# EAGLE library part SO14GT-DC (library STEMTera)
Amkor SO14GT-DC 3.8mm body
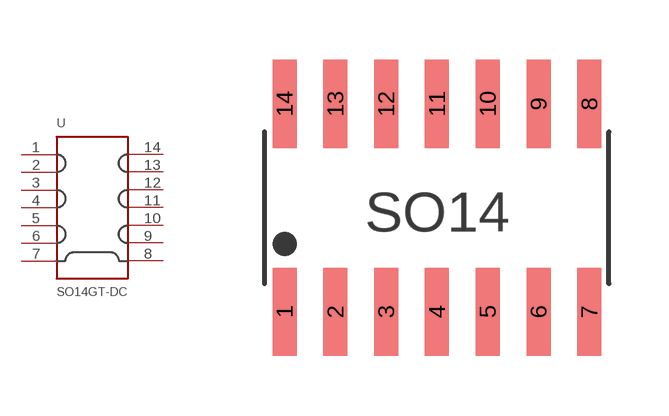
[diagram p13: symbol with the pads of SOIC14_3.8MM; footprint SOIC14_3.8MM]

Designator prefix -

## SO14GT-DC  [SOIC14_3.8MM]
1  1
2  2
3  3
4  4
5  5
6  6
7  7
8  8
9  9
10  10
11  11
12  12
13  13
14  14

## Footprint SOIC14_3.8MM (pad centres in mm)
SOIC14 3.8mm Body
smd 0.6 x 2.2: 1 -5.08,-2.54; 2 -3.81,-2.54; 3 -2.54,-2.54; 4 -1.27,-2.54; 5 0,-2.54; 6 1.27,-2.54; 7 2.54,-2.54; 8 2.54,2.66; 9 1.27,2.66; 10 0,2.66; 11 -1.27,2.66; 12 -2.54,2.66; 13 -3.81,2.66; 14 -5.08,2.66